# EAGLE library part AT25FF081A-SSHN-B (library AT25FF081A-SSHN-B)
The AT25FF081A is a member of our Standard class code and data storage solutions and is ideally suited for systems that need fast Read performance and low Sleep power for boot/code shadowing and Execute-in-Place tasks. Its low power consumption and wide operating voltage range are optimized for battery-powered designs. Source: Datasheet <https://www.renesas.com/us/en/products/memory-logic/non-volatile-memory/spi-nor-flash/dual-quad-spi-memory/at25ff081a-8mbit-165-v-36-v-spi-serial-flash-memory-multi-io-support>
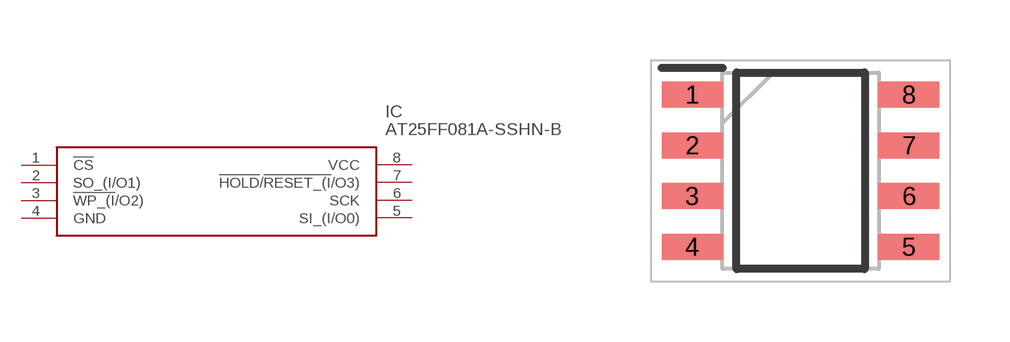
[diagram p0: symbol with the pads of SOIC127P600X175-8N; footprint SOIC127P600X175-8N]

Designator prefix IC

## AT25FF081A-SSHN-B (Description: The AT25FF081A is a member of our Standard class code and data storage solutions and is ideally suited for systems that need fast Read performance and low Sleep power for boot/code shadowing and Execute-in-Place tasks. Its low power consumption and wide operating voltage range are optimized for battery-powered designs.; Height: 1.75mm; Manufacturer_Name: Renesas Electronics; Manufacturer_Part_Number: AT25FF081A-SSHN-B)  [SOIC127P600X175-8N]
1  !CS
2  SO_(I/O1)
3  !WP_(I!/O2)
4  GND
5  SI_(I/O0)
6  SCK
7  !HOLD!/!RESET_(I!/O3)
8  VCC

## Footprint SOIC127P600X175-8N (pad centres in mm)
8S1
smd 1.525 x 0.65: 1 -2.712,1.905; 2 -2.712,0.635; 3 -2.712,-0.635; 4 -2.712,-1.905; 5 2.712,-1.905; 6 2.712,-0.635; 7 2.712,0.635; 8 2.712,1.905